# Altium integrated library Analog Devices Data Converters Analog-to-Digital Converters.IntLib: 2400 symbols (part 262 of 338)
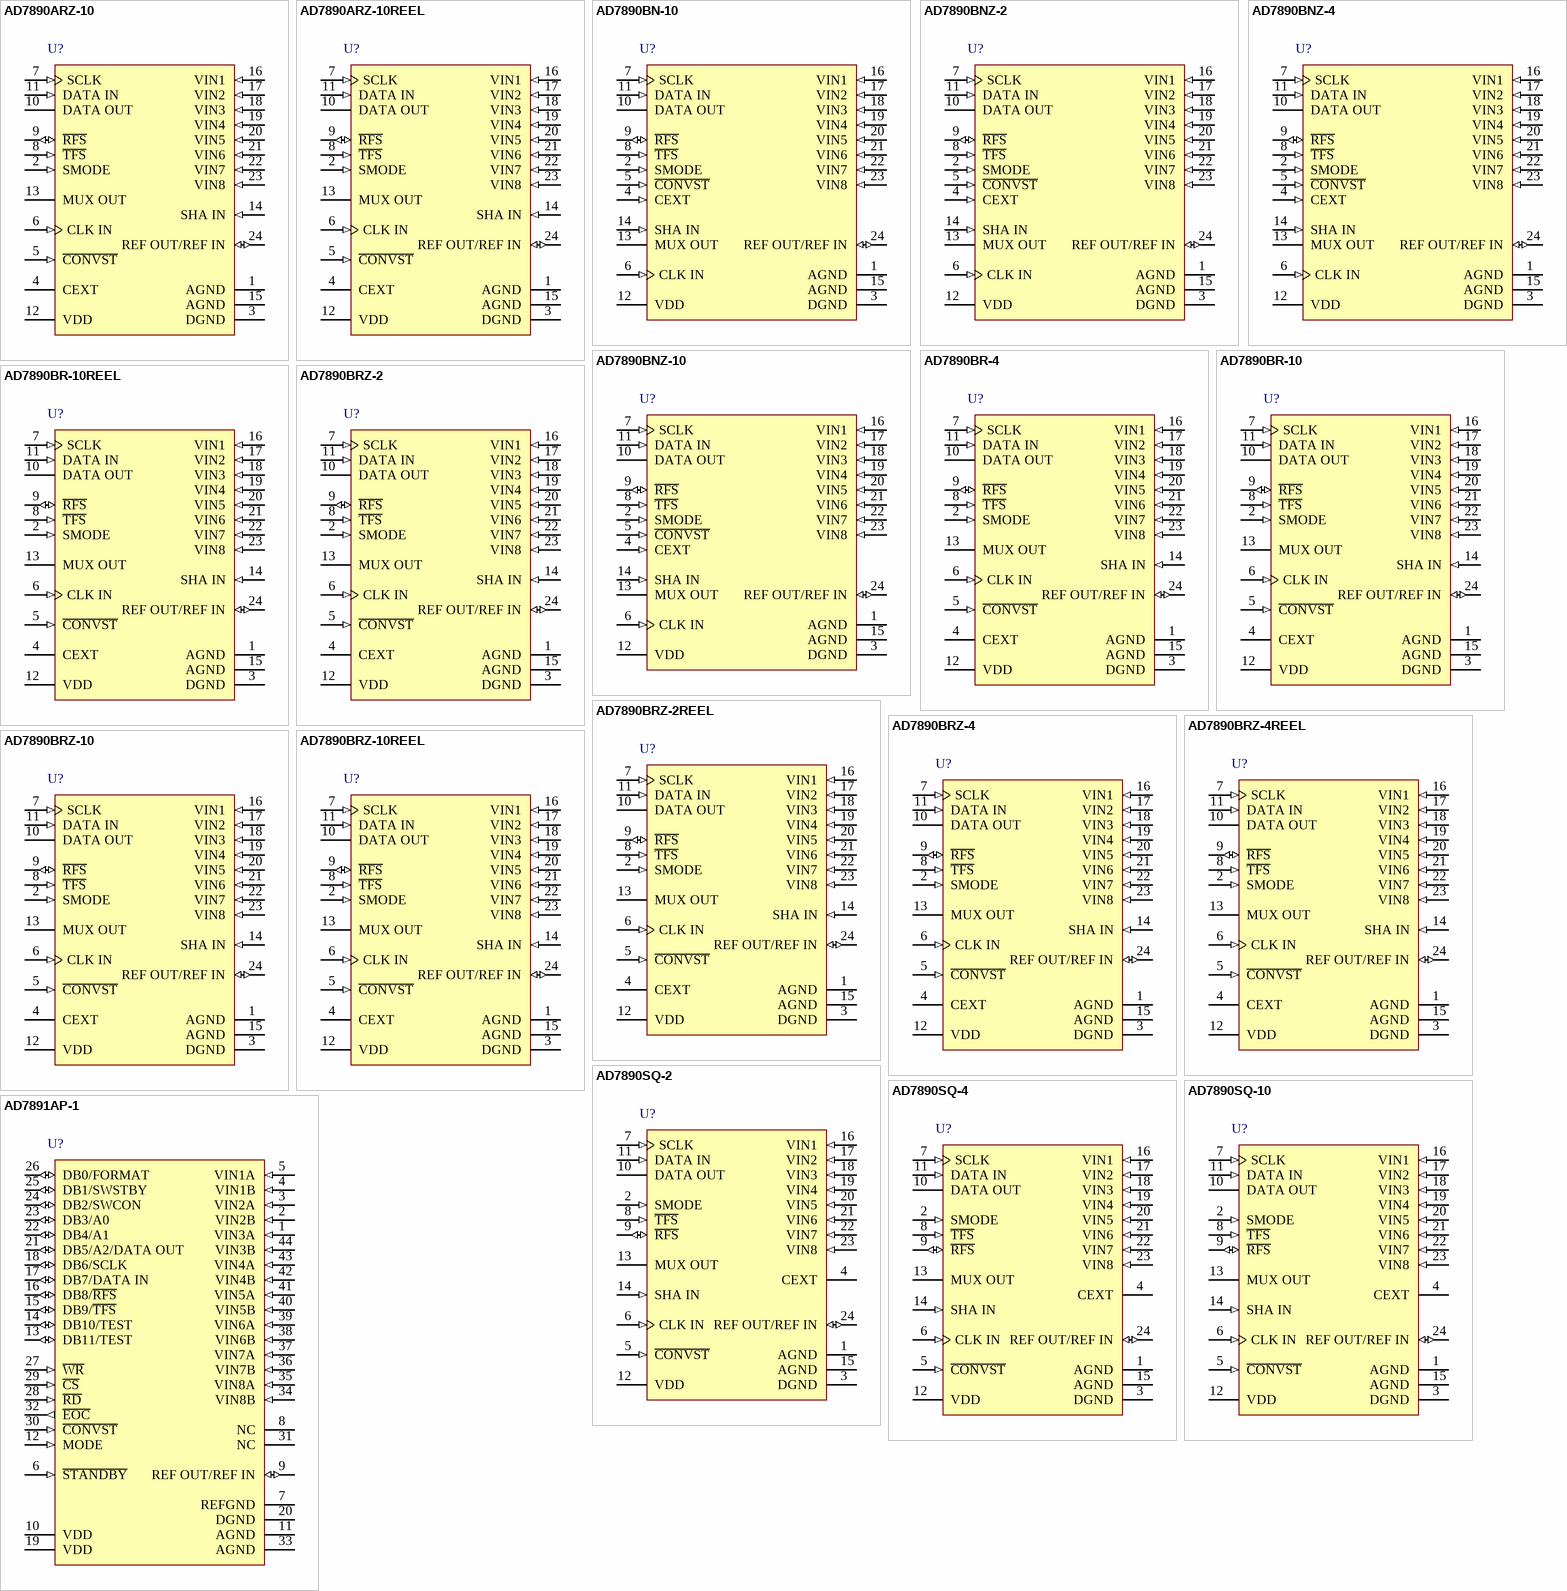
[diagram p396: symbols AD7890ARZ-10 to AD7891AP-1]

## AD7890ARZ-10
designator U?
LC2MOS 8 Channel, 12-Bit Serial Data Acquisition System, 117KSPS, -40 to +85 degC, RW-24, Pb-Free, Tube; Part Number: AD7890; Manufacturer: Analog Devices; Resolution (Bits): 12; Channels: 8; Throughput Rate (SPS): 117K; Interface: Ser; DatasheetVersion: Rev.C; PackageVersion: 060706-A; PackageReference: RW-24; PackageDescription: 24-Lead Standard Small Outline Package [SOIC_W]; RoHS: Y; Packing: Tube; Mounting Technology: Surface Mount; Code_JEDEC: MS-013-AD; ComponentLink1Description: Manufacturer URL; ComponentLink1URL: http://www.analog.com/en/index.html; ComponentLink2Description: Datasheet; ComponentLink2URL: http://www.analog.com/static/imported-files/data_sheets/AD7890.pdf; ComponentLink3Description: Package Specification; ComponentLink3URL: http://www.analog.com/static/imported-files/packages/33665150946139RW_24.pdf; ComponentLink4Description: Product URL; ComponentLink4URL: http://www.analog.com/en/analog-to-digital-converters/ad-converters/ad7890/products/product.html
footprint RW-24_N (SOIC, 24-Leads, Body 15.4x7.5mm, Pitch 1.27mm, IPC Medium Density)
footprint RW-24_L (SOIC, 24-Leads, Body 15.4x7.5mm, Pitch 1.27mm, IPC High Density)
footprint RW-24_M (SOIC, 24-Leads, Body 15.4x7.5mm, Pitch 1.27mm, IPC Low Density)
pins: 1 AGND (power) "Analog Ground. Ground reference for track/hold, comparator, and DAC.", 2 SMODE (in) "Control Input. Determines whether the part operates in its external clocking (slave) or self-clocking (master) serial mode. With SMODE at a logic low, the part is in its self-clocking serial mode with R\F\S\ and SCLK as (See Datasheet)", 3 DGND (power) "Digital Ground. Ground reference for digital circuitry.", 4 CEXT "External Capacitor. An external capacitor is connected to this pin to determine the length of the internal pulse (see the Control Register section). Larger capacitances on this pin extend the pulse to allow for settling time (See Datasheet)", 5 ~{CONVST} (in) "Convert Start. Edge-triggered logic input. A low-to-high transition on this input puts the track/hold into hold and initiates conversion if the internal pulse has timed out (see the Control Register section). If the internal (See Datasheet)", 6 CLK IN (in) "Clock Input. An external TTL-compatible clock is applied to this input pin to provide the clock source for the conversion sequence. In the self-clocking serial mode, the SCLK output is derived from this CLK IN pin.", 7 SCLK (in) "Serial Clock Input. In the external clocking (slave) mode (see the Serial Interface section), this is an externally applied serial clock used to load serial data to the control register and to access data from the output (See Datasheet)", 8 ~{TFS} (in) "Transmit Frame Synchronization Pulse. Active low logic input with serial data expected after the falling edge of this signal.", 9 ~{RFS} (io) "Receive Frame Synchronization Pulse. In the external clocking mode, this pin is an active low logic input with R\F\S\ provided externally as a strobe or framing pulse to access serial data from the output register. In the (See Datasheet)", 10 DATA OUT (hiz) "Serial Data Output. Sixteen bits of serial data are provided with one leading zero, preceding the three address bits of the control register and the 12 bits of conversion data. Serial data is valid on the falling edge of (See Datasheet)", 11 DATA IN (in) "Serial Data Input. Serial data to be loaded to the control register is provided at this input. The first five bits of serial data are loaded to the control register on the first five falling edges of SCLK after T\F\S\ goes (See Datasheet)", 12 VDD (power) "Positive Supply Voltage, 5 V +/- 5%.", 13 MUX OUT (hiz) "Multiplexer Output. The output of the multiplexer appears at this pin. The output voltage range from this output is 0 V to 2.5 V for the nominal analog input range to the selected channel. The output impedance of this output (See Datasheet)", 14 SHA IN (in) "Track/Hold Input. The input to the on-chip track/hold is applied to this pin. It is a high impedance input and the input voltage range is 0 V to 2.5 V.", 15 AGND (power) "Analog Ground. Ground reference for track/hold, comparator, and DAC.", 16 VIN1 (in) "Analog Input Channel 1. Single-ended analog input. The analog input range on is +/-10 V (AD7890-10), 0 V to 4.096 V (AD7890-4), and 0 V to 2.5 V (AD7890-2). The channel to be converted is selected using the A0, A1, and A2 (See Datasheet)", 17 VIN2 (in) "Analog Input Channel 2. Single-ended analog input. The analog input range on is +/-10 V (AD7890-10), 0 V to 4.096 V (AD7890-4), and 0 V to 2.5 V (AD7890-2). The channel to be converted is selected using the A0, A1, and A2 (See Datasheet)", 18 VIN3 (in) "Analog Input Channel 3. Single-ended analog input. The analog input range on is +/-10 V (AD7890-10), 0 V to 4.096 V (AD7890-4), and 0 V to 2.5 V (AD7890-2). The channel to be converted is selected using the A0, A1, and A2 (See Datasheet)", 19 VIN4 (in) "Analog Input Channel 4. Single-ended analog input. The analog input range on is +/-10 V (AD7890-10), 0 V to 4.096 V (AD7890-4), and 0 V to 2.5 V (AD7890-2). The channel to be converted is selected using the A0, A1, and A2 (See Datasheet)", 20 VIN5 (in) "Analog Input Channel 5. Single-ended analog input. The analog input range on is +/-10 V (AD7890-10), 0 V to 4.096 V (AD7890-4), and 0 V to 2.5 V (AD7890-2). The channel to be converted is selected using the A0, A1, and A2 (See Datasheet)", 21 VIN6 (in) "Analog Input Channel 6. Single-ended analog input. The analog input range on is +/-10 V (AD7890-10), 0 V to 4.096 V (AD7890-4), and 0 V to 2.5 V (AD7890-2). The channel to be converted is selected using the A0, A1, and A2 (See Datasheet)", 22 VIN7 (in) "Analog Input Channel 7. Single-ended analog input. The analog input range on is +/-10 V (AD7890-10), 0 V to 4.096 V (AD7890-4), and 0 V to 2.5 V (AD7890-2). The channel to be converted is selected using the A0, A1, and A2 (See Datasheet)", 23 VIN8 (in) "Analog Input Channel 8. Single-ended analog input. The analog input range on is +/-10 V (AD7890-10), 0 V to 4.096 V (AD7890-4) and 0 V to 2.5 V (AD7890-2). The channel to be converted is selected using the A0, A1, and A2 (See Datasheet)", 24 REF OUT/REF IN (io) "Voltage Reference Output/Input. The part can be used with either its own internal reference or with an external reference source. The on-chip 2.5 V reference voltage is provided at this pin. When using this internal (See Datasheet)"